# EAGLE library part ADP1612/ADP1613 (library VinodADPreg)
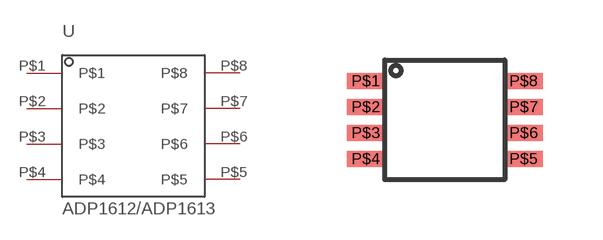
[diagram p0: symbol with the pads of ADP1612/ADP1613; footprint ADP1612/ADP1613]

Designator prefix -

## ADP1612/ADP1613  [ADP1612/ADP1613]
P$1  P$1
P$2  P$2
P$3  P$3
P$4  P$4
P$5  P$5
P$6  P$6
P$7  P$7
P$8  P$8

## Footprint ADP1612/ADP1613 (pad centres in mm)
smd 0.95 x 0.4: P$1 -2.085,0.975; P$2 -2.085,0.325; P$3 -2.085,-0.325; P$4 -2.085,-0.975; P$5 1.865,-0.975; P$6 1.865,-0.325; P$7 1.865,0.325; P$8 1.865,0.975